# EAGLE library part FIBOCOM-G510 (library X893)
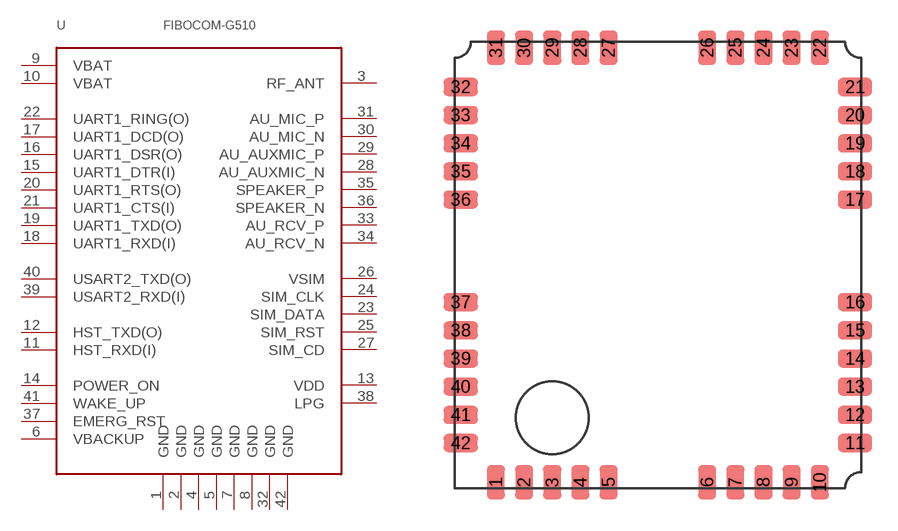
[diagram p200: symbol with the pads of FIBOCOM-G510; footprint FIBOCOM-G510]

Designator prefix U

## FIBOCOM-G510  [FIBOCOM-G510]
1  GND  pwr
2  GND  pwr
3  RF_ANT  pas
4  GND  pwr
5  GND  pwr
6  VBACKUP
7  GND  pwr
8  GND  pwr
9  VBAT  pwr
10  VBAT  pwr
11  HST_RXD(I)  in
12  HST_TXD(O)  out
13  VDD  out
14  POWER_ON  in
15  UART1_DTR(I)  in
16  UART1_DSR(O)  out
17  UART1_DCD(O)  out
18  UART1_RXD(I)  in
19  UART1_TXD(O)  out
20  UART1_RTS(O)  out
21  UART1_CTS(I)  in
22  UART1_RING(O)  out
23  SIM_DATA
24  SIM_CLK  out
25  SIM_RST  out
26  VSIM  out
27  SIM_CD  in
28  AU_AUXMIC_N  pas
29  AU_AUXMIC_P  pas
30  AU_MIC_N  pas
31  AU_MIC_P  pas
32  GND  pwr
33  AU_RCV_P  pas
34  AU_RCV_N  pas
35  SPEAKER_P  pas
36  SPEAKER_N  pas
37  EMERG_RST  in
38  LPG  out
39  USART2_RXD(I)  in
40  USART2_TXD(O)  out
41  WAKE_UP  in
42  GND  pwr

## Footprint FIBOCOM-G510 (pad centres in mm)
smd 0.9 x 1.7: 1 -8.05,-10.8; 2 -6.65,-10.8; 3 -5.25,-10.8; 4 -3.85,-10.8; 5 -2.45,-10.8; 6 2.45,-10.8; 7 3.85,-10.8; 8 5.25,-10.8; 9 6.65,-10.8; 10 8.05,-10.8; 22 8.05,10.8; 23 6.65,10.8; 24 5.25,10.8; 25 3.85,10.8; 26 2.45,10.8; 27 -2.45,10.8; 28 -3.85,10.8; 29 -5.25,10.8; 30 -6.65,10.8; 31 -8.05,10.8
smd 1.7 x 0.9: 11 9.8,-8.85; 12 9.8,-7.45; 13 9.8,-6.05; 14 9.8,-4.65; 15 9.8,-3.25; 16 9.8,-1.85; 17 9.8,3.25; 18 9.8,4.65; 19 9.8,6.05; 20 9.8,7.45; 21 9.8,8.85; 32 -9.8,8.85; 33 -9.8,7.45; 34 -9.8,6.05; 35 -9.8,4.65; 36 -9.8,3.25; 37 -9.8,-1.85; 38 -9.8,-3.25; 39 -9.8,-4.65; 40 -9.8,-6.05; 41 -9.8,-7.45; 42 -9.8,-8.85